# EAGLE library part 01STANDARD_RM5_THT_6PIN (library Wurth Electronics Midcom Inc V1-0)
Package Style: Standard RM5_THT_6PIN Mounting: THT Pins: 6 pins Bobbin: 070-2250 Best pinouts for production vary per application. Please contact Wurth Electronics Midcom, Inc. for assistance with your custom design. Website: Wurth Electronics Midcom <http://www.we-online.com/midcom> Contact us Wurth Electronics Midcom, Inc. 121 Airport Dr. Watertown, SD 57201 Phone: (605) 886-4385 Fax: (605) 886-4486 E-Mail: midcom@we-online.com
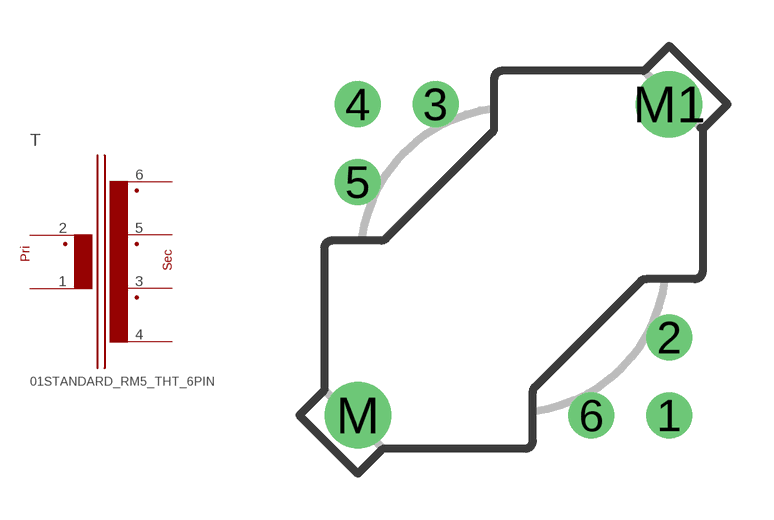
[diagram p152: symbol with the pads of 01STANDARD_RM5_THT_6PIN; footprint 01STANDARD_RM5_THT_6PIN]

Designator prefix T

## 01STANDARD_RM5_THT_6PIN  [01STANDARD_RM5_THT_6PIN]
1  2  pas
2  1  pas
3  5  pas
4  6  pas
5  4  pas
6  3  pas

## Footprint 01STANDARD_RM5_THT_6PIN (pad centres in mm)
Package Style: Speedy RM5_THT_6PIN Mounting: THT Pins: 6 pins Bobbin: 070-2250
drill 0.991 round: 1 5.08,-5.08; 2 5.08,-2.54; 3 -2.54,5.08; 4 -5.08,5.08; 5 -5.08,2.54; 6 2.54,-5.08
drill 1.448 round: M -5.08,-5.08; M1 5.08,5.08